# Altium schematic symbol library CL31A106MBHNNNE.SchLib: 1 symbol
Pins are listed as number, name and electrical type; pins without a type are passive.

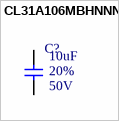
[diagram p0: symbol CL31A106MBHNNNE]

## CL31A106MBHNNNE
designator C?  Rated Voltage: 50V  Tolerance: 20%  Capacitence: 10uF  (hidden comment: CL31A106MBHNNNE)
/ Multilayer Ceramic Capacitors MLCC - SMD/SMT 10uF+/-20% 50V X5R 3216; MFR: Samsung Electro-Mechanics; PN: CL31A106MBHNNNE; ComponentLink1Description: Datasheet; ComponentLink1URL: https://www.mouser.ca/datasheet/2/585/MLCC-1837944.pdf; Temperature Coefficient: X5R; Package: 1206; Footprint: C1206; Supplier 1: Mouser; Supplier Part Number 1: 187-CL31A106MBHNNNE
footprint C1206 (A generic C1206 footprint)
pins: 1, 2